# Altium schematic symbol library ADA4805-2ARMZ.SchLib: 1 symbol
Pins are listed as number, name and electrical type; pins without a type are passive.

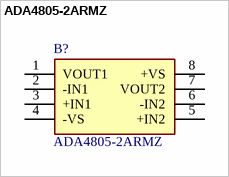
[diagram p0: symbol ADA4805-2ARMZ]

## ADA4805-2ARMZ
designator B?
Dual, 0.2 V/C Offset Drift, 105 MHz Low Power, Low Noise, Rail-to-Rail Amplifier; Manufacturer_Name: Analog Devices; Geometry.Height: 1.1mm; Manufacturer_Part_Number: ADA4805-2ARMZ; Mouser Part Number: 584-ADA4805-2ARMZ; Mouser Price/Stock: https://www.mouser.co.uk/ProductDetail/Analog-Devices/ADA4805-2ARMZ?qs=94CH1SeFPDbIgIDzbbE15w%3D%3D; Arrow Part Number: ADA4805-2ARMZ; Arrow Price/Stock: https://www.arrow.com/en/products/ada4805-2armz/analog-devices?region=nac; Datasheet Link: https://www.analog.com/ADA4805-2/datasheet
footprint SOP65P490X110-8N
pins: 1 VOUT1, 2 -IN1, 3 +IN1, 4 -VS, 5 +IN2, 6 -IN2, 7 VOUT2, 8 +VS